# EAGLE library part NCP5623DTBR2G (library PocketCHIP-v1.0)
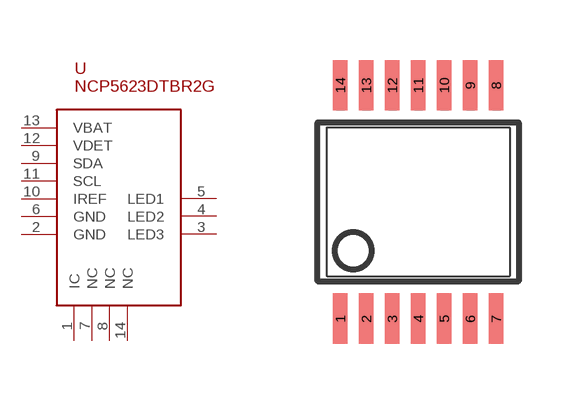
[diagram p3: symbol with the pads of TSSOP14; footprint TSSOP14]

Designator prefix -

## NCP5623DTBR2G  [TSSOP14]
1  IC
2  GND
3  LED3
4  LED2
5  LED1
6  GND
7  NC
8  NC
9  SDA
10  IREF
11  SCL
12  VDET
13  VBAT
14  NC

## Footprint TSSOP14 (pad centres in mm)
Thin Shrink Small Outline Plastic 14 MAX3223-MAX3243.pdf
smd 0.36 x 1.26: 1 -1.95,-2.918; 2 -1.3,-2.918; 3 -0.65,-2.918; 4 0,-2.918; 5 0.65,-2.918; 6 1.3,-2.918; 7 1.95,-2.918; 8 1.95,2.918; 9 1.3,2.918; 10 0.65,2.918; 11 0,2.918; 12 -0.65,2.918; 13 -1.3,2.918; 14 -1.95,2.918